# Altium schematic symbol library 电子元件.SchLib: 121 symbols (part 1 of 2)
Pins are listed as number, name and electrical type; pins without a type are passive.

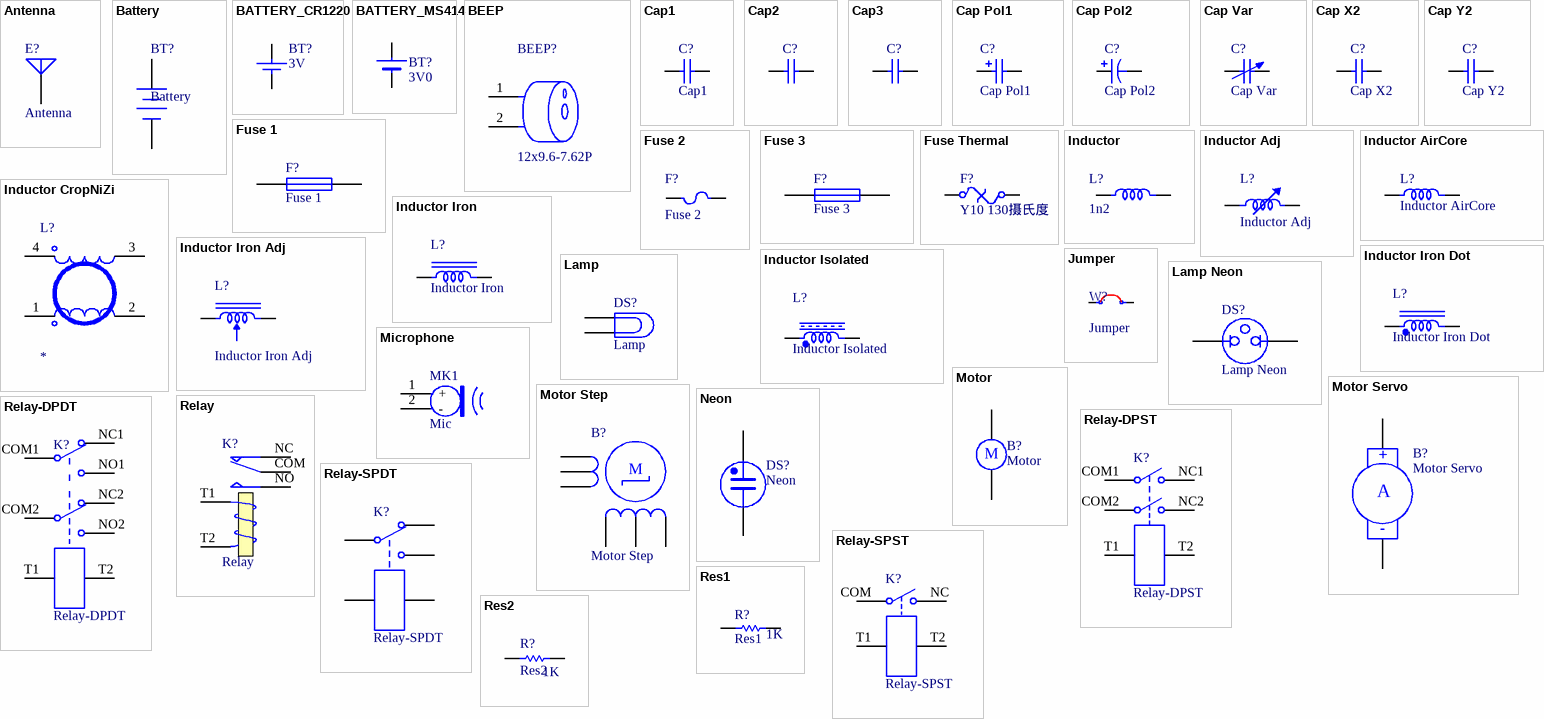
[diagram p0: symbols Antenna to Res2]

## Antenna
designator E?
天线; Published: 24-Mar-1999; LatestRevisionDate: 17-Jul-2002; LatestRevisionNote: Re-released for DXP Platform.; PackageReference: PIN1; Publisher: Altium Limited
footprint 2450AT18A100 (Footprint not found)
footprint ANT-xxx-HETH (315 418 433MHz 50 Ω -40 to +85°C)
footprint ANT-xxx-HESM (315 418 433MHz 50 Ω -40 to +85°C)
footprint ANT-433-PW-LP (Footprint not found)
pins: 1 A

## Battery
designator BT?
外接电池; Published: 24-Mar-1999; LatestRevisionDate: 17-Jul-2002; LatestRevisionNote: Re-released for DXP Platform.; PackageReference: BAT-2; Publisher: Altium Limited
footprint XH2.5-2P (JST XH白色座)
pins: 1 +, 2 -

## BATTERY_CR1220
designator BT?, comment 3V
CR1220 3V3锂电池
footprint CR1220 (3V电池)
pins: 1 +, 2 -

## BATTERY_MS414
designator BT?, comment 3V0
SEIKO 4.8mm直径 414系列1.5 2.0 3.0V锂电池
footprint BK-414-TR (XH414电池铁夹)
footprint XH414-II06E (Footprint not found)
pins: 1 +, 2 -

## BEEP
designator BEEP?, comment 12x9.6-7.62P
圆形蜂鸣器
footprint BEEP-762P12X9.5 (Footprint not found)
pins: 1 +, 2 -

## Cap1
designator C?
贴片瓷介电容; Published: 8-Jun-2000; LatestRevisionDate: 17-Jul-2002; LatestRevisionNote: Re-released for DXP Platform.; PackageReference: RAD-0.3; Publisher: Altium Limited
simulation model CAP (Capacitor)
signal-integrity model Cap
footprint C0201 (英制0201封装 电容)
footprint C0402 (英制0402封装 电容)
footprint C0603 (英制0603封装 电容)
footprint C0805 (英制0805封装 电容)
footprint C1206 (英制1206封装 电容)
footprint C1210 (英制1210封装 电容)
footprint C1812 (英制1812封装 电容)
footprint C1808 (VISHAY VJ贴片电容)
footprint C1825 (VISHAY VJ贴片电容)
footprint C2220 (VISHAY VJ贴片电容)
footprint C2225 (VISHAY VJ贴片电容)
footprint C3640 (VISHAY VJ贴片电容)
footprint C0201-Y (黄色贴片电容)
footprint C0402-Y (黄色贴片电容)
footprint C0603-Y (黄色贴片电容)
footprint C0805-Y (黄色贴片电容)
footprint C1206-Y (黄色贴片电容)
footprint C1210-Y (黄色贴片电容)
pins: 1, 2

## Cap2
designator C?
针式瓷片电容; Published: 23-Sep-2002; PackageReference: CAPR5-4X5; Publisher: Altium Limited
footprint RAD5D-0.1 (针式瓷片电容)
simulation model CAP (Capacitor)
signal-integrity model Cap
footprint RAD5D-0.2 (针式瓷片电容)
footprint RAD6D35-0.2 (针式瓷片电容)
pins: 1, 2

## Cap3
designator C?
金属化薄膜电容; Published: 23-Sep-2002; PackageReference: CAPR5-4X5; Publisher: Altium Limited
footprint msr-7p5-10w5-9h-6t-R (Footprint not found)
simulation model CAP (Capacitor)
signal-integrity model Cap
footprint msr500p-6w6-6h2-3t5-R (Footprint not found)
footprint msr500p-7w3-7h-t4-R (Footprint not found)
footprint mcapv-12w8h4t5-10p (Footprint not found)
footprint mcapv-12w9h5t-10p (Footprint not found)
footprint mcapv-12w10h6t-10p (Footprint not found)
footprint mcapv-12w11h7t5-10p (Footprint not found)
footprint mcapv-12w11h7t-10p (Footprint not found)
footprint mcapv-17w11h6t5-15p (Footprint not found)
footprint mcapv-17w12h7t-15p (Footprint not found)
footprint mcapv-17w14h9t-15p (Footprint not found)
footprint mcapv-18w10h6t5-15p (Footprint not found)
footprint mcapv-18w11h7t-15p (Footprint not found)
footprint mcapv-18w12h8t-15p (Footprint not found)
footprint mcapv-18w15h9t-15p (Footprint not found)
footprint mcapv-18w16h10t-15p (Footprint not found)
footprint mcapv-22w15h8t5-20p (Footprint not found)
footprint mcapv-22w16h5-10t-20p (Footprint not found)
footprint mcapv-22w19h9t-20p (Footprint not found)
footprint mcapv-22w19h12t-20p (Footprint not found)
footprint mcapv-23w14h5-8t5-20p (Footprint not found)
footprint mcapv-23w16h9t5-20p (Footprint not found)
footprint mcapv-23w17h11t-20p (Footprint not found)
footprint mcapv-23w18h11t5-20p (Footprint not found)
footprint mcapv-25w15h9t-22p5 (Footprint not found)
footprint mcapv-25w16h5-10t-22p5 (Footprint not found)
footprint mcapv-25w17h5-11t-22p5 (Footprint not found)
footprint mcapv-25w18h5-12t-22p5 (Footprint not found)
footprint mcapv-25w21h5-12t5-22p5 (Footprint not found)
footprint mcapv-25w21h11t5-22p5 (Footprint not found)
footprint mcapv-29w19h10t5-27p5 (Footprint not found)
footprint mcapv-29w20h13t-27p5 (Footprint not found)
footprint mcapv-29w21h12t5-27p5 (Footprint not found)
footprint mcapv-29w23h17t5-27p5 (Footprint not found)
footprint mcapv-30w21h12t-27p5 (Footprint not found)
footprint mcapv-30w22h5-13t-27p5 (Footprint not found)
footprint mcapv-30w23h5-14t-27p5 (Footprint not found)
pins: 1, 2

## Cap Pol1
designator C?
钽电容; Published: 8-Jun-2000; LatestRevisionDate: 17-Jul-2002; LatestRevisionNote: Re-released for DXP Platform.; PackageReference: RB7.6-15; Publisher: Altium Limited
simulation model CAP (Capacitor)
signal-integrity model Cap Pol
footprint T3216-18[A] (A 型钽电容封装)
footprint T3528-21[B] (B 型钽电容封装)
footprint T6032-28[C] (C型钽电容)
footprint T7343-31[D] (D型钽电容)
footprint T7343-43[E] (E型钽电容)
footprint T7361-38[V] (V型钽电容)
pins: 1, 2
1 alternate drawing of the same symbol

## Cap Pol2
designator C?
电解电容; Published: 8-Jun-2000; LatestRevisionDate: 17-Jul-2002; LatestRevisionNote: Re-released for DXP Platform.; PackageReference: POLAR0.8; Publisher: Altium Limited
simulation model CAP (Capacitor)
signal-integrity model Cap Pol
footprint CD4x7 (1uF/50V,10uF/25V)
footprint CD5X11 (CD11铝电解电容)
footprint CD6.3X11 (CD11铝电解电容)
footprint CD8X11.5 (CD11铝电解电容)
footprint CD8X16 (CD11铝电解电容)
footprint CD10X15 (CD11铝电解电容)
footprint CD13X21 (CD11铝电解电容)
footprint CE-4.3x4.3AX (三洋固态电容)
footprint CE-5.3X5.3AX (三洋固态电容)
footprint CE-6.6X6.6AX (三洋固态电容)
footprint CE-8.3X8.3AX (三洋固态电容)
footprint CE-10.3X10.3AX (三洋固态电容)
footprint CE-12.8X12.8AX (三洋固态电容)
footprint CE-16.3X16.3AX (三洋固态电容)
pins: 1, 2
1 alternate drawing of the same symbol

## Cap Var
designator C?
可调电容; Published: 24-Mar-1999; LatestRevisionDate: 17-Jul-2002; LatestRevisionNote: Re-released for DXP Platform.; PackageReference: C1210; Publisher: Altium Limited
signal-integrity model Cap Var
footprint CAP-ADJ-JML03-3P (Footprint not found)
footprint CAP-ADJ-JML03-6P (贴片可调电容)
footprint CAP-ADJ-JML03-20P (贴片可调电容)
footprint CAP-ADJ-JML03-30P (Footprint not found)
pins: 1, 2

## Cap X2
designator C?
X2安规电容; Published: 23-Sep-2002; PackageReference: CAPR5-4X5; Publisher: Altium Limited
simulation model CAP (Capacitor)
signal-integrity model Cap
footprint x2v-10w5h10t4-7p5
footprint x2v-10w5h11t5-7p5 (Footprint not found)
footprint x2v-10w5h12t6-7p5 (Footprint not found)
footprint x2v-12w4t9h-10p (Footprint not found)
footprint x2v-13w11h5t-p10 (Footprint not found)
footprint x2v-13w12h6t-p10 (Footprint not found)
footprint x2v-18w11h5t-p15 (Footprint not found)
footprint x2v-18w12h6t-p15 (Footprint not found)
footprint x2v-18w13h5-7t5-p15 (Footprint not found)
footprint x2v-18w14h5-8t4-p15 (Footprint not found)
footprint x2v-18w15h5-9t5-p15 (Footprint not found)
footprint x2v-18w19h-10t8-p15 (Footprint not found)
footprint x2v-26w5-15h-6t-22p5 (Footprint not found)
footprint x2v-26w5-16h5-7t-22p5 (Footprint not found)
footprint x2v-26w5-17h-8t5-22p5 (Footprint not found)
footprint x2v-26w5-19h-10t-22p5 (Footprint not found)
footprint x2v-26w5-20h-11t-22p (Footprint not found)
footprint x2v-26w5-21h5-12t-22p5 (Footprint not found)
footprint x2v-31w5-19h5-10t8-27p5 (Footprint not found)
footprint x2v-31w5-21h5-13t-27p5 (Footprint not found)
footprint x2v-32w-25h5-16t-27p5 (Footprint not found)
footprint x2v-32w-26h-18t-27p5 (Footprint not found)
pins: 1, 2

## Cap Y2
designator C?
Y2安规电容; Published: 23-Sep-2002; PackageReference: CAPR5-4X5; Publisher: Altium Limited
simulation model CAP (Capacitor)
signal-integrity model Cap
footprint Y2CAP7.5F-3.75T (Y2 7.5mm脚距，4mm厚)
footprint Y2CAP10F-3.75T (Y2 10mm脚距，4mm厚)
pins: 1, 2

## Fuse 1
designator F?
针式熔断器; Published: 8-Jun-2000; LatestRevisionDate: 17-Jul-2002; LatestRevisionNote: Re-released for DXP Platform.; PackageReference: PIN-W2/E2.8; Publisher: Altium Limited
simulation model FUSE (Spice Subcircuit)
footprint FUSE-3.6X10 (引线式电流保险丝)
footprint FUSE-199018 (5X20保险丝座)
footprint FUSE-3.6X10H (引线式电流保险丝)
footprint FUSE-199487 (5X20保险丝)
pins: 1, 2

## Fuse 2
designator F?
贴片熔断器; Published: 8-Jun-2000; LatestRevisionDate: 17-Jul-2002; LatestRevisionNote: Re-released for DXP Platform.; PackageReference: PIN-W2/E2.8; Publisher: Altium Limited
footprint FUSE-2.6X6.1-SMD (Footprint not found)
simulation model FUSE (Spice Subcircuit)
footprint FUSE-4.5X8-SMD (Footprint not found)
footprint FUSE-4.5X12.1-SMD (Littelfuse 0.5 ~6.3A SMD FUSE)
footprint FUSE-5X20-SMD (Footprint not found)
pins: 1, 2

## Fuse 3
designator F?
自恢复断路器; Published: 8-Jun-2000; LatestRevisionDate: 17-Jul-2002; LatestRevisionNote: Re-released for DXP Platform.; PackageReference: PIN-W2/E2.8; Publisher: Altium Limited
simulation model FUSE (Spice Subcircuit)
footprint PTC1812 (Footprint not found)
pins: 1, 2

## Fuse Thermal
designator F?, comment Y10 130摄氏度
温度保险丝; Published: 24-Mar-1999; LatestRevisionDate: 17-Jul-2002; LatestRevisionNote: Re-released for DXP Platform.; PackageReference: PIN-W2/E2.8; Publisher: Altium Limited
footprint FUSE-Y10 (Footprint not found)
pins: 1, 2

## Inductor
designator L?, comment 1n2
高频贴片电感
footprint LL0201 (Footprint not found)
footprint LL0402 (Footprint not found)
footprint LL0603 (Footprint not found)
pins: 1, 2

## Inductor Adj
designator L?
微调电感; Set Position: 0.5; Published: 24-Mar-1999; LatestRevisionDate: 17-Jul-2002; LatestRevisionNote: Re-released for DXP Platform.; PackageReference: AXIAL-0.8; Publisher: Altium Limited
simulation model INDUCTOR (Inductor)
signal-integrity model Inductor Adj
pins: 1, 2

## Inductor AirCore
designator L?
高频空芯电感; Code_IEC: 1005; Published: 8-Jun-2000; LatestRevisionDate: 17-Jul-2002; LatestRevisionNote: Re-released for DXP Platform.; PackageReference: 0402-A; Publisher: Altium Limited; Code_JEITA: 0402
simulation model INDUCTOR (Inductor)
signal-integrity model Inductor
footprint IND4D-1T5 (空芯线圈)
footprint IND4D-2T5 (空芯线圈)
footprint IND4D-3T5 (空芯线圈)
footprint IND4D-4T5 (空芯线圈)
footprint IND4D-5T5 (空芯线圈)
footprint IND4D-6T5 (Footprint not found)
footprint IND4D-7T5 (Footprint not found)
footprint IND4D-8T5 (Footprint not found)
footprint IND4D-9T5 (Footprint not found)
footprint IND4D-10T5 (Footprint not found)
footprint IND4D-32T5 (Footprint not found)
footprint IND5D-1T5 (Footprint not found)
footprint IND5D-2T5 (Footprint not found)
footprint IND5D-3T5 (Footprint not found)
footprint IND5D-4T5 (Footprint not found)
footprint IND5D-5T5 (Footprint not found)
footprint IND5D-6T5 (Footprint not found)
footprint IND5D-7T5 (Footprint not found)
footprint IND5D-8T5 (Footprint not found)
footprint IND5D-9T5 (Footprint not found)
footprint IND5D-10T5 (Footprint not found)
footprint IND5D-32T5 (Footprint not found)
footprint IND6D-1T5 (Footprint not found)
footprint IND6D-2T5 (Footprint not found)
footprint IND6D-3T5 (Footprint not found)
footprint IND6D-4T5 (Footprint not found)
footprint IND6D-5T5 (Footprint not found)
footprint IND6D-6T5 (Footprint not found)
footprint IND6D-7T5 (Footprint not found)
footprint IND6D-8T5 (Footprint not found)
footprint IND6D-9T5 (Footprint not found)
footprint IND6D-10T5 (Footprint not found)
footprint IND7D-1T5 (Footprint not found)
footprint IND7D-2T5 (Footprint not found)
footprint IND7D-3T5 (Footprint not found)
footprint IND7D-4T5 (Footprint not found)
footprint IND7D-5T5 (Footprint not found)
footprint IND7D-8T5 (Footprint not found)
footprint IND7D-9T5 (Footprint not found)
footprint IND7D-10T5 (Footprint not found)
footprint IND8D-1T5 (Footprint not found)
footprint IND8D-2T5 (Footprint not found)
footprint IND8D-3T5 (Footprint not found)
footprint IND8D-4T5 (Footprint not found)
footprint IND8D-5T5 (Footprint not found)
footprint IND8D-6T5 (Footprint not found)
footprint IND8D-7T5 (Footprint not found)
footprint IND8D-9T5 (Footprint not found)
footprint IND8D-10T5 (Footprint not found)
footprint IND9D-1T5 (Footprint not found)
footprint IND9D-2T5 (Footprint not found)
footprint IND9D-3T5 (Footprint not found)
footprint IND9D-4T5 (Footprint not found)
footprint IND9D-5T5 (Footprint not found)
footprint IND9D-6T5 (Footprint not found)
footprint IND9D-7T5 (Footprint not found)
footprint IND9D-8T5 (Footprint not found)
footprint IND9D-9T5 (Footprint not found)
footprint IND9D-10T5 (Footprint not found)
footprint IND4D-1T5S (Footprint not found)
footprint IND4D-2T5S (贴片空芯线圈)
footprint IND4D-3T5S (Footprint not found)
footprint IND4D-4T5S (Footprint not found)
footprint IND4D-5T5S (Footprint not found)
footprint IND4D-6T5S (Footprint not found)
footprint IND4D-7T5S (Footprint not found)
footprint IND4D-8T5S (贴片空芯线圈)
footprint IND4D-9T5S (Footprint not found)
footprint IND4D-10T5S (Footprint not found)
footprint IND4D-11T5S (Footprint not found)
footprint IND3D-1T5S (Footprint not found)
footprint IND3D-4T5S (Footprint not found)
footprint IND3D-2T5S (Footprint not found)
footprint IND3D-3T5S (Footprint not found)
footprint IND3D-5T5S (Footprint not found)
footprint IND3D-6T5S (Footprint not found)
footprint IND3D-7T5S (Footprint not found)
footprint IND3D-8T5S (Footprint not found)
footprint IND3D-9T5S (Footprint not found)
footprint IND3D-10T5S (Footprint not found)
footprint IND3D-11T5S (Footprint not found)
footprint IND2D5-1T5S (Footprint not found)
footprint IND2D5-2T5S (Footprint not found)
footprint IND2D5-3T5S (Footprint not found)
footprint IND2D5-4T5S (Footprint not found)
footprint IND2D5-5T5S (Footprint not found)
footprint IND2D5-6T5S (Footprint not found)
footprint IND2D5-7T5S (Footprint not found)
footprint IND2D5-8T5S (Footprint not found)
footprint IND2D5-9T5S (Footprint not found)
footprint IND2D5-10T5S (Footprint not found)
footprint IND2D5-11T5S (Footprint not found)
footprint IND2D-1T5S (Footprint not found)
footprint IND2D-2T5S (Footprint not found)
footprint IND2D-3T5S (Footprint not found)
footprint IND2D-4T5S (Footprint not found)
footprint IND2D-5T5S (Footprint not found)
footprint IND2D-6T5S (Footprint not found)
footprint IND2D-7T5S (Footprint not found)
footprint IND2D-8T5S (Footprint not found)
footprint IND2D-9T5S (Footprint not found)
footprint IND2D-10T5S (Footprint not found)
footprint IND2D-11T5S (Footprint not found)
pins: 1, 2

## Inductor CropNiZi
designator L?
磁环滤波电感
footprint EMI-R500 (Footprint not found)
pins: 1, 2, 3, 4

## Inductor Iron
designator L?
EMI 磁珠电感; Published: 24-Mar-1999; LatestRevisionDate: 17-Jul-2002; LatestRevisionNote: Re-released for DXP Platform.; PackageReference: AXIAL-0.9; Publisher: Altium Limited
simulation model INDUCTOR (Inductor)
signal-integrity model Inductor Iron
footprint MLF1005 (0402 普通贴片电感)
footprint MLF1608 (0603 普通贴片电感)
footprint MLF2012 (0805 普通贴片电感)
footprint RH2D5X4L5 (Footprint not found)
footprint RH2DX4L (Footprint not found)
footprint RH3D5X3L (Footprint not found)
footprint RH3D5X4L5 (Footprint not found)
footprint RH3D5X5L (Footprint not found)
footprint RH3D5X6L (Footprint not found)
footprint RH3D5X7L (Footprint not found)
footprint RH3D5X8L (Footprint not found)
footprint RH3D5X9L (Footprint not found)
footprint RH3D5X10L (Footprint not found)
footprint RH3D5X11L (Footprint not found)
footprint RH3D5X12L (Footprint not found)
footprint ILSB1206 (Footprint not found)
footprint ILBB1210 (Footprint not found)
footprint ILBB1806 (Footprint not found)
footprint ILBB1812 (Footprint not found)
pins: 1, 2

## Inductor Iron Adj
designator L?
铁磁芯可调电感; Set Position: 0.5; Published: 24-Mar-1999; LatestRevisionDate: 17-Jul-2002; LatestRevisionNote: Re-released for DXP Platform.; PackageReference: AXIAL-1.0; Publisher: Altium Limited
footprint 7KBSN (镙纹可调电感)
simulation model INDUCTOR (Inductor)
signal-integrity model Inductor Iron Adj
pins: 1, 2

## Inductor Iron Dot
designator L?
工字磁芯电感; Published: 24-Mar-1999; LatestRevisionDate: 17-Jul-2002; LatestRevisionNote: Re-released for DXP Platform.; PackageReference: DIODE_SMC; Publisher: Altium Limited
signal-integrity model Inductor Iron Dot
footprint SF1608 (Footprint not found)
footprint drc3d2-2d8-1l5 (贴片工字电感)
footprint drc3d5-3d0-1l1 (Footprint not found)
footprint drc3d5-3d0-2l1 (Footprint not found)
footprint drc10d0-9d0-8L2 (贴片工字电感)
footprint drc10d0-9d0-5L4 (贴片工字电感)
footprint drc10d0-9d0-4l0 (贴片工字电感)
footprint drc7d8-7d0-5L0 (贴片工字电感)
footprint drc7d8-7d0-3l5 (贴片工字电感)
footprint drc5d8-5d2-4L5 (贴片工字电感)
footprint drc5d8-5d2-3L0 (贴片工字电感)
footprint drc5d8-5d2-2l5 (贴片工字电感)
footprint drc5d8-5d2-2l (贴片工字电感)
footprint drc5d0-4d5-3L0 (贴片工字电感)
footprint drc4d5-4d0-3L2 (贴片工字电感)
footprint drc4d5-4d0-2l1 (贴片工字电感)
footprint DRR4D-6L-2P (Footprint not found)
footprint DRR5D-6L-2P5 (Footprint not found)
footprint DRR6D-8L-3P (Footprint not found)
footprint DRR6D-8L-4P (Footprint not found)
footprint DRR7D-10L-2P5 (Footprint not found)
footprint DRR7D-10L-3P (Footprint not found)
footprint DRR8D-10L-5P (针式工字电感)
footprint DRR9D-12L-5P (针式工字电感)
footprint DRR9D-12L-6P (针式工字电感)
footprint DRR10D-12L-5P (针式工字电感)
footprint DRR10D-12L-6P (针式工字电感)
pins: 1, 2

## Inductor Isolated
designator L?
蔽磁电感; PackageDocument: 1988; Published: 24-Mar-1999; LatestRevisionDate: 17-Jul-2002; LatestRevisionNote: Re-released for DXP Platform.; PackageReference: 425; Publisher: Altium Limited
signal-integrity model Inductor Isolated
footprint LGBF0606 (蔽磁功率电感)
footprint LGBF0807 (蔽磁功率电感)
footprint LGBF1012 (Footprint not found)
footprint RH124 (贴片蔽磁电感)
footprint RH125 (贴片蔽磁电感)
footprint RH127 (贴片蔽磁电感)
footprint SD4D18 (贴片蔽磁电感)
footprint SD4D28 (贴片蔽磁电感)
footprint SD5D18 (贴片蔽磁电感)
footprint SD5D28 (贴片蔽磁电感)
footprint SD6D28 (贴片蔽磁电感)
footprint SD6D38 (贴片蔽磁电感)
footprint SD8D28 (贴片蔽磁电感)
footprint SD8D43 (贴片蔽磁电感)
footprint SLF-6025 (TDK 蔽磁贴片功率电感)
footprint SLF-6028 (TDK 蔽磁贴片功率电感)
footprint SLF-6045 (TDK 蔽磁贴片功率电感)
footprint SLF-7032 (TDK 蔽磁贴片功率电感)
footprint SLF-7045 (TDK 蔽磁贴片功率电感)
footprint SLF-7055 (TDK 蔽磁贴片功率电感)
footprint SLF-10145 (TDK 蔽磁贴片功率电感)
footprint SLF-10165 (TDK 蔽磁贴片功率电感)
footprint SLF-12555 (TDK 蔽磁贴片功率电感)
footprint SLF-12565 (TDK 蔽磁贴片功率电感)
footprint SLF-12575 (TDK 蔽磁贴片功率电感)
footprint VLF252010 (Footprint not found)
footprint VLF252012 (Footprint not found)
footprint VLF252015 (Footprint not found)
footprint VLF302510 (Footprint not found)
footprint VLF302512 (Footprint not found)
footprint VLF302515 (Footprint not found)
footprint VLF403210 (Footprint not found)
footprint VLF403212 (Footprint not found)
footprint VLF403215 (Footprint not found)
footprint VLF504010 (Footprint not found)
footprint VLF504012 (Footprint not found)
footprint VLF504015 (Footprint not found)
pins: 1, 2

## Jumper
designator W?
跳线; Published: 24-Mar-1999; LatestRevisionDate: 17-Jul-2002; LatestRevisionNote: Re-released for DXP Platform.; PackageReference: RAD-0.2; Publisher: Altium Limited
footprint JUMP0D6-3 (跳线)
footprint JUMP0D6-4 (跳线)
footprint JUMP0D6-5 (跳线)
footprint JUMP0D6-6 (跳线)
footprint JUMP0D6-7 (跳线)
footprint JUMP0D6-8 (跳线)
footprint JUMP0D6-9 (跳线)
footprint JUMP0D6-10 (跳线)
footprint JUMP0D6-11 (跳线)
footprint JUMP0D6-12 (跳线)
footprint JUMP0D6-15 (跳线)
footprint JUMP0D6-20 (跳线)
footprint JUMP0D6-25 (跳线)
footprint JUMP0D6-13 (跳线)
footprint JUMP0D6-14 (跳线)
footprint JUMP0D6-16 (跳线)
footprint JUMP0D6-17 (跳线)
footprint JUMP0D6-18 (跳线)
footprint JUMP0D6-19 (跳线)
footprint JUMP0D6-21 (跳线)
footprint JUMP0D6-22 (跳线)
footprint JUMP0D6-23 (跳线)
footprint JUMP0D6-24 (跳线)
pins: 1, 2

## Lamp
designator DS?
灯炮; Published: 24-Mar-1999; LatestRevisionDate: 17-Jul-2002; LatestRevisionNote: Re-released for DXP Platform.; PackageReference: PIN2; Publisher: Altium Limited
footprint XH2.5-2P (JST XH白色座)
pins: 1, 2

## Lamp Neon
designator DS?
氖炮; Published: 24-Mar-1999; LatestRevisionDate: 17-Jul-2002; LatestRevisionNote: Re-released for DXP Platform.; PackageReference: PIN2; Publisher: Altium Limited
footprint XH2.5-2P (JST XH白色座)
pins: 1, 2

## Microphone
designator MK1, comment Mic
电容式受话器; Published: 24-Mar-1999; LatestRevisionDate: 17-Jul-2002; LatestRevisionNote: Re-released for DXP Platform.; PackageReference: PIN2; Publisher: Altium Limited
footprint MIC_RF-MP6027P-2C (6.0*2.7mm全指向双电容咪头)
pins: 1 +, 2 -

## Motor
designator B?
通用电机; Published: 24-Mar-1999; LatestRevisionDate: 17-Jul-2002; LatestRevisionNote: Re-released for DXP Platform.; PackageReference: RB5-10.5; Publisher: Altium Limited
footprint XH2.5-2P (JST XH白色座)
pins: 1, 2
text: M

## Motor Servo
designator B?
直流电机; Published: 24-Mar-1999; LatestRevisionDate: 17-Jul-2002; LatestRevisionNote: Re-released for DXP Platform.; PackageReference: RAD-0.4; Publisher: Altium Limited
footprint XH2.5-2P (JST XH白色座)
pins: 1 +, 2 -
text: A

## Motor Step
designator B?
步进电机; Published: 24-Mar-1999; LatestRevisionDate: 17-Jul-2002; LatestRevisionNote: Re-released for DXP Platform.; PackageReference: DIP-6; Publisher: Altium Limited; Code_JEDEC: MO-001-AM
footprint XH2.5-5P (JST XH白色座)
pins: 1, 2, 3, 4, 5, 6
text: M

## Neon
designator DS?
氖管; Published: 24-Mar-1999; LatestRevisionDate: 17-Jul-2002; LatestRevisionNote: Re-released for DXP Platform.; PackageReference: PIN2; Publisher: Altium Limited
footprint XH2.5-2P (JST XH白色座)
pins: 1, 2

## Relay
designator K?
单刀双掷继电器; Published: 8-Jun-2000; LatestRevisionDate: 17-Jul-2002; LatestRevisionNote: Re-released for DXP Platform.; PackageReference: MODULE5B; Publisher: Altium Limited
simulation model SPDTRELAY (Spice Subcircuit)
footprint SRD-S-1C (Footprint not found)
footprint SLA (SLA继电器)
pins: COM, NC, NO, T1, T2

## Relay-DPDT
designator K?
双刀双掷继电器; Published: 24-Mar-1999; LatestRevisionDate: 17-Jul-2002; LatestRevisionNote: Re-released for DXP Platform.; PackageReference: DIP-P8; Publisher: Altium Limited
simulation model DPDTRELAY (Spice Subcircuit)
footprint DSY2Y (继电器)
pins: COM1 COM, COM2 COM, NC1 NC, NC2 NC, NO1 NO, NO2 NO, T1, T2

## Relay-DPST
designator K?
双刀继电器; Published: 24-Mar-1999; LatestRevisionDate: 17-Jul-2002; LatestRevisionNote: Re-released for DXP Platform.; PackageReference: MODULE6; Publisher: Altium Limited
simulation model DPSTRELAY (Spice Subcircuit)
footprint SMC (Footprint not found)
pins: COM1 COM, COM2 COM, NC1 NC, NC2 NC, T1, T2

## Relay-SPDT
designator K?
单刀双掷继电器; Published: 24-Mar-1999; LatestRevisionDate: 17-Jul-2002; LatestRevisionNote: Re-released for DXP Platform.; PackageReference: MODULE5B; Publisher: Altium Limited
simulation model SPDTRELAY (Spice Subcircuit)
footprint SLA (Footprint not found)
footprint SRD-S-1C (Footprint not found)
pins: 1, 2, 3, 4, 5

## Relay-SPST
designator K?
单刀继电器; Published: 24-Mar-1999; LatestRevisionDate: 17-Jul-2002; LatestRevisionNote: Re-released for DXP Platform.; PackageReference: MODULE4; Publisher: Altium Limited
simulation model SPSTRELAY (Spice Subcircuit)
footprint SJ-10A (Footprint not found)
pins: COM, NC, T1, T2

## Res1
designator R?  value 1K
贴片厚膜电阻; Published: 8-Jun-2000; LatestRevisionDate: 17-Jul-2002; LatestRevisionNote: Re-released for DXP Platform.; PackageReference: AXIAL-0.3; Publisher: Altium Limited
footprint R0201 (英制0201封装电阻)
simulation model RESISTOR (Resistor)
signal-integrity model Res
footprint R0402 (英制0402封装电阻)
footprint R0603 (Footprint not found)
footprint R0805 (Footprint not found)
footprint R1206 (Footprint not found)
footprint R1210 (Footprint not found)
footprint R1218 (Footprint not found)
footprint R2010 (Footprint not found)
footprint R2512 (Footprint not found)
footprint R1812 (Footprint not found)
pins: 1, 2

## Res2
designator R?  value 1K
小功率针式电阻; Published: 8-Jun-2000; LatestRevisionDate: 17-Jul-2002; LatestRevisionNote: Re-released for DXP Platform.; PackageReference: AXIAL-0.4; Publisher: Altium Limited
footprint AXIAL-0.4 (Resistor; 2 Leads)
simulation model RESISTOR (Resistor)
signal-integrity model Res
footprint AXIAL-0.3 (Footprint not found)
footprint AXIAL-0.5 (Footprint not found)
footprint AXIAL-0.6 (Footprint not found)
footprint AXIAL-0.7 (Footprint not found)
footprint AXIAL-0.8 (Footprint not found)
footprint MF-12 (Footprint not found)
footprint MF-25 (Footprint not found)
footprint MF-50 (Footprint not found)
footprint MF-100 (Footprint not found)
footprint MF-200 (Footprint not found)
footprint MF-300 (Footprint not found)
pins: 1, 2

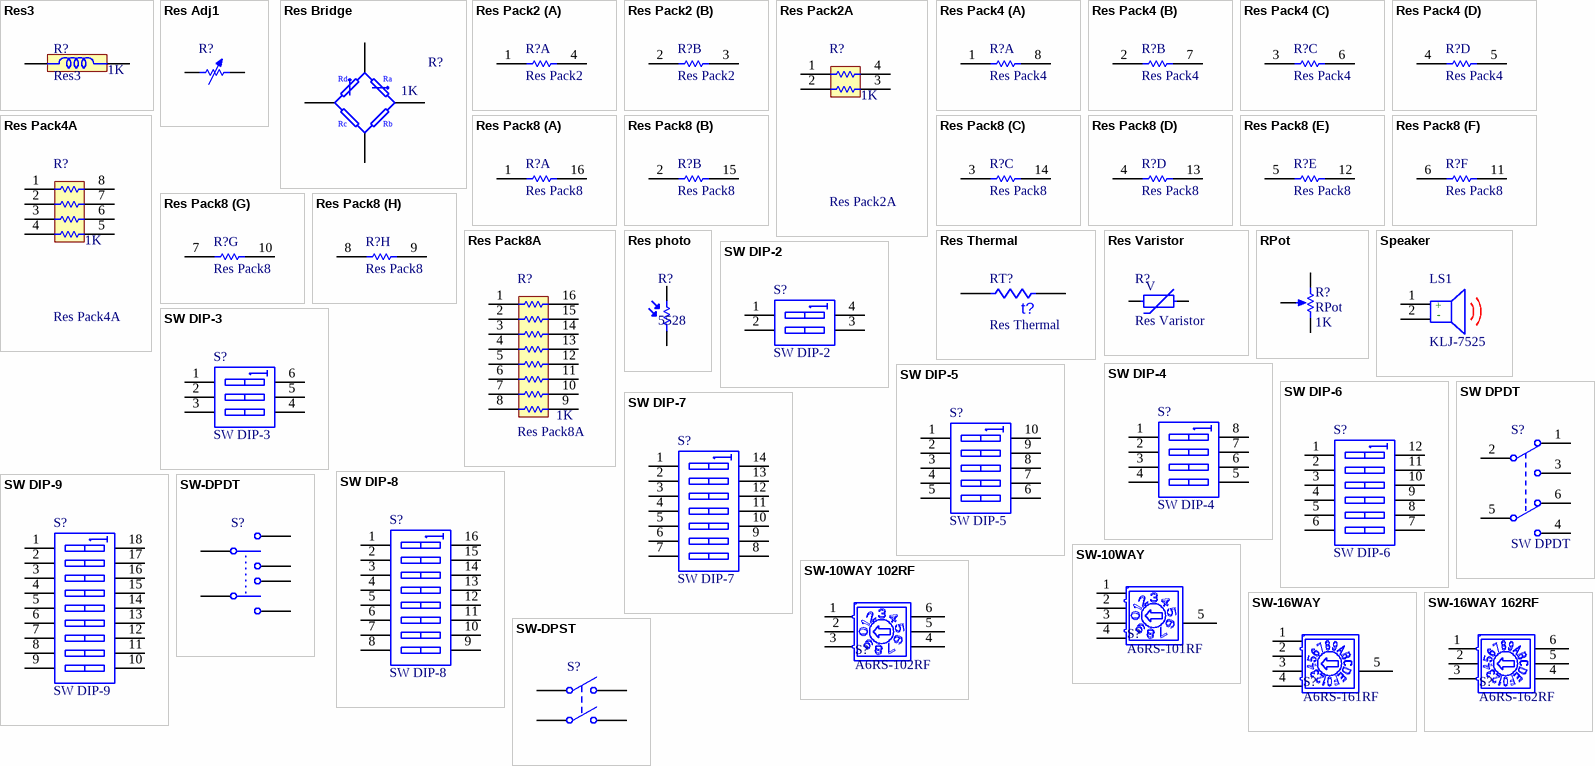
[diagram p1: symbols Res3 to SW-DPST]

## Res3
designator R?  value 1K
水泥电阻(有感）; Published: 8-Jun-2000; LatestRevisionDate: 04-Mar-2005; LatestRevisionNote: PCB Footprint replaced.; PackageReference: J1-0603; Publisher: Altium Limited
footprint SQP-1 (Footprint not found)
simulation model RESISTOR (Resistor)
signal-integrity model Res
footprint SQP-2 (Footprint not found)
footprint SQP-3 (Footprint not found)
footprint SQP-5 (Footprint not found)
footprint SQP-7 (Footprint not found)
footprint SQP-10 (Footprint not found)
footprint SQP-15 (Footprint not found)
footprint SQP-20 (Footprint not found)
pins: 1, 2

## Res Adj1
designator R?
Variable Resistor; Set Position: 0.5; Published: 8-Jun-2000; LatestRevisionDate: 17-Jul-2002; LatestRevisionNote: Re-released for DXP Platform.; PackageReference: AXIAL-0.7; Publisher: Altium Limited
simulation model VRES (Variable Resistor)
signal-integrity model Res Adj
footprint JML3362P (Footprint not found)
footprint JML3296Y (Footprint not found)
pins: CCW, CW

## Res Bridge
designator R?  value 1K
Resistor Bridge; Published: 24-Mar-1999; LatestRevisionDate: 17-Jul-2002; LatestRevisionNote: Re-released for DXP Platform.; PackageReference: P04A; Publisher: Altium Limited
footprint XH2.5-4P (JST XH白色座)
signal-integrity model Res Bridge
pins: 1, 2, 3, 4
text: Rd; Ra; Rc; Rb

## Res Pack2
designator R?
2位贴片排阻; Sim Note: Enter the Resistance value into parameter field.; Published: 24-Mar-1999; LatestRevisionDate: 17-Jul-2002; LatestRevisionNote: Re-released for DXP Platform.; PackageReference: SOIC16; Publisher: Altium Limited; Code_JEDEC: MS-012-AC; Code_IPC: SO16
simulation model RESISTOR (Resistor)
signal-integrity model Res Pack
footprint CRB1A2E (Footprint not found)
part A pins: 1, 4
part B pins: 2, 3

## Res Pack2A
designator R?  value 1K
2位贴片排阻; Published: 24-Mar-1999; LatestRevisionDate: 17-Jul-2002; LatestRevisionNote: Re-released for DXP Platform.; PackageReference: SO-16; Publisher: Altium Limited
footprint CRB1A2E (Footprint not found)
simulation model respack_8 (Spice Subcircuit)
pins: 1, 2, 3, 4

## Res Pack4
designator R?
4位贴片排阻; Sim Note: Enter the Resistance value into parameter field.; Published: 24-Mar-1999; LatestRevisionDate: 17-Jul-2002; LatestRevisionNote: Re-released for DXP Platform.; PackageReference: SOIC16; Publisher: Altium Limited; Code_JEDEC: MS-012-AC; Code_IPC: SO16
simulation model RESISTOR (Resistor)
signal-integrity model Res Pack
footprint CRA3A4E (Footprint not found)
footprint CRB3A4E (Footprint not found)
footprint CRB2A4E (Footprint not found)
part A pins: 1, 8
part B pins: 2, 7
part C pins: 3, 6
part D pins: 4, 5

## Res Pack4A
designator R?  value 1K
4位贴片排阻; Published: 24-Mar-1999; LatestRevisionDate: 17-Jul-2002; LatestRevisionNote: Re-released for DXP Platform.; PackageReference: SO-16; Publisher: Altium Limited
footprint CRA3A4E (Footprint not found)
simulation model respack_8 (Spice Subcircuit)
footprint CRB2A4E (Footprint not found)
footprint CRB3A4E (Footprint not found)
pins: 1, 2, 3, 4, 5, 6, 7, 8

## Res Pack8
designator R?
8位贴片排阻; Sim Note: Enter the Resistance value into parameter field.; Published: 24-Mar-1999; LatestRevisionDate: 17-Jul-2002; LatestRevisionNote: Re-released for DXP Platform.; PackageReference: SOIC16; Publisher: Altium Limited; Code_JEDEC: MS-012-AC; Code_IPC: SO16
simulation model RESISTOR (Resistor)
signal-integrity model Res Pack
footprint CRB6A8E (Footprint not found)
part A pins: 1, 16
part B pins: 2, 15
part C pins: 3, 14
part D pins: 4, 13
part E pins: 5, 12
part F pins: 6, 11
part G pins: 7, 10
part H pins: 8, 9

## Res Pack8A
designator R?  value 1K
8位贴片排阻; Published: 24-Mar-1999; LatestRevisionDate: 17-Jul-2002; LatestRevisionNote: Re-released for DXP Platform.; PackageReference: SO-16; Publisher: Altium Limited
footprint CRB6A8E (Footprint not found)
simulation model respack_8 (Spice Subcircuit)
pins: 1, 2, 3, 4, 5, 6, 7, 8, 9, 10, 11, 12, 13, 14, 15, 16

## Res photo
designator R?, comment 5528
光敏电阻; Published: 24-Mar-1999; LatestRevisionDate: 04-Mar-2005; LatestRevisionNote: PCB Footprint replaced.; PackageReference: 6-0805; Publisher: Altium Limited
footprint XH2.5-2P (Footprint not found)
pins: 1, 2

## Res Thermal
designator RT?
热敏电阻; Published: 24-Mar-1999; LatestRevisionDate: 04-Mar-2005; LatestRevisionNote: PCB Footprint replaced.; PackageReference: 6-0805; Publisher: Altium Limited
footprint RT0402 (Footprint not found)
footprint RT0603 (Footprint not found)
footprint RT0805 (Footprint not found)
pins: 1, 2
text: t?

## Res Varistor
designator R?
压敏电阻; Published: 24-Mar-1999; LatestRevisionDate: 04-Mar-2005; LatestRevisionNote: PCB Footprint replaced.; PackageReference: 6-0805; Publisher: Altium Limited
pins: 1, 2
text: V

## RPot
designator R?  value 1K
可调 电阻; Sim Note: Enter the Resistance value and the set point into parameter fields.; Set Position: 0.5; Published: 8-Jun-2000; LatestRevisionDate: 17-Jul-2002; LatestRevisionNote: Re-released for DXP Platform.; PackageReference: VR5; Publisher: Altium Limited
simulation model POT (Potentiometer)
footprint JML3362P (Footprint not found)
footprint JML3296Y (Footprint not found)
pins: CCW TOP, CW BOT, WPER TAP
1 alternate drawing of the same symbol

## Speaker
designator LS1, comment KLJ-7525
喇叭; Published: 24-Mar-1999; LatestRevisionDate: 17-Jul-2002; LatestRevisionNote: Re-released for DXP Platform.; PackageReference: PIN2; Publisher: Altium Limited
footprint Molex53398-0271 (Molex53398 连接器)
footprint XH2.5-2P (Footprint not found)
pins: 1 +, 2 -

## SW DIP-2
designator S?
2通道编码开关; Published: 24-Mar-1999; LatestRevisionDate: 17-Jul-2002; LatestRevisionNote: Re-released for DXP Platform.; PackageReference: DIP-4; Publisher: Altium Limited
footprint DIP-SW-2-BLUE (Footprint not found)
simulation model dpsw2 (Spice Subcircuit)
footprint DIP-SW-2-RED (Footprint not found)
pins: 1 A1, 2 A2, 3 B2, 4 B1

## SW DIP-3
designator S?
3通道编码开关; Published: 24-Mar-1999; LatestRevisionDate: 17-Jul-2002; LatestRevisionNote: Re-released for DXP Platform.; PackageReference: DIP-6; Publisher: Altium Limited; Code_JEDEC: MO-001-AM
footprint DIP-SW-3-BLUE (Footprint not found)
simulation model dpsw3 (Spice Subcircuit)
footprint DIP-SW-3-RED (Footprint not found)
pins: 1 A1, 2 A2, 3 A3, 4 B3, 5 B2, 6 B1

## SW DIP-4
designator S?
4通道编码开关; Published: 24-Mar-1999; LatestRevisionDate: 17-Jul-2002; LatestRevisionNote: Re-released for DXP Platform.; PackageReference: SO8; Publisher: Altium Limited; Code_JEDEC: MS-012-AA; Code_IPC: SO8
simulation model dpsw4 (Spice Subcircuit)
footprint DIP-SW-4-BLUE (Footprint not found)
footprint DIP-SW-4-RED (Footprint not found)
pins: 1 A1, 2 A2, 3 A3, 4 A4, 5 B4, 6 B3, 7 B2, 8 B1

## SW DIP-5
designator S?
5通道编码开关; Published: 24-Mar-1999; LatestRevisionDate: 17-Jul-2002; LatestRevisionNote: Re-released for DXP Platform.; PackageReference: N10A; Publisher: Altium Limited
footprint DIP-SW-5-BLUE (Footprint not found)
simulation model dpsw5 (Spice Subcircuit)
footprint DIP-SW-5-RED (Footprint not found)
pins: 1 A1, 2 A2, 3 A3, 4 A4, 5 A5, 6 B5, 7 B4, 8 B3, 9 B2, 10 B1

## SW DIP-6
designator S?
6通道编码开关; Published: 24-Mar-1999; LatestRevisionDate: 17-Jul-2002; LatestRevisionNote: Re-released for DXP Platform.; PackageReference: DIP-12/SW; Publisher: Altium Limited
footprint DIP-SW-6-BLUE (Footprint not found)
simulation model dpsw6 (Spice Subcircuit)
footprint DIP-SW-6-RED (Footprint not found)
pins: 1 A1, 2 A2, 3 A3, 4 A4, 5 A5, 6 A6, 7 B6, 8 B5, 9 B4, 10 B3, 11 B2, 12 B1

## SW DIP-7
designator S?
7通道编码开关; Published: 24-Mar-1999; LatestRevisionDate: 17-Jul-2002; LatestRevisionNote: Re-released for DXP Platform.; PackageReference: DIP-14; Publisher: Altium Limited; Code_JEDEC: MO-001-AF
footprint DIP-SW-7-BLUE (Footprint not found)
simulation model dpsw7 (Spice Subcircuit)
footprint DIP-SW-7-RED (Footprint not found)
pins: 1 A1, 2 A2, 3 A3, 4 A4, 5 A5, 6 A6, 7 A7, 8 B7, 9 B6, 10 B5, 11 B4, 12 B3, 13 B2, 14 B1

## SW DIP-8
designator S?
8通道编码开关; Published: 24-Mar-1999; LatestRevisionDate: 17-Jul-2002; LatestRevisionNote: Re-released for DXP Platform.; PackageReference: DIP_SW_8WAY_SMD; Publisher: Altium Limited
footprint DIP-SW-8-RED (Footprint not found)
simulation model dpsw8 (Spice Subcircuit)
footprint DIP-SW-8-BLUE (Footprint not found)
pins: 1 A1, 2 A2, 3 A3, 4 A4, 5 A5, 6 A6, 7 A7, 8 A8, 9 B8, 10 B7, 11 B6, 12 B5, 13 B4, 14 B3, 15 B2, 16 B1

## SW DIP-9
designator S?
9通道编码开关; Published: 24-Mar-1999; LatestRevisionDate: 17-Jul-2002; LatestRevisionNote: Re-released for DXP Platform.; PackageReference: DIP-18; Publisher: Altium Limited; Code_JEDEC: MO-036-AE
footprint DIP-SW-9-BLUE (Footprint not found)
simulation model dpsw9 (Spice Subcircuit)
footprint DIP-SW-9-RED (Footprint not found)
pins: 1 A1, 2 A2, 3 A3, 4 A4, 5 A5, 6 A6, 7 A7, 8 A8, 9 A9, 10 B9, 11 B8, 12 B7, 13 B6, 14 B5, 15 B4, 16 B3, 17 B2, 18 B1

## SW DPDT
designator S?
自锁开关 （双刀双掷）; Published: 24-Mar-1999; LatestRevisionDate: 17-Jul-2002; LatestRevisionNote: Re-released for DXP Platform.; PackageReference: SOT23-6; Publisher: Altium Limited
footprint PS-22E07 (Footprint not found)
pins: 1 NC1, 2 COMMON1, 3 NO1, 4 NO2, 5 COMMON2, 6 NC2

## SW-10WAY
designator S?, comment A6RS-101RF
10进制编码开关; Published: 24-Mar-1999; LatestRevisionDate: 17-Jul-2002; LatestRevisionNote: Re-released for DXP Platform.; PackageReference: SW-7; Publisher: Altium Limited
footprint A6RS-101RF (Footprint not found)
pins: 1, 2, 3, 4, 5

## SW-10WAY 102RF
designator S?, comment A6RS-102RF
10进制编码开关; Published: 24-Mar-1999; LatestRevisionDate: 17-Jul-2002; LatestRevisionNote: Re-released for DXP Platform.; PackageReference: SW-7; Publisher: Altium Limited
footprint A6RS-102RF (Footprint not found)
pins: 1, 2, 3, 4, 5, 6

## SW-16WAY
designator S?, comment A6RS-161RF
16进制编码开关; Published: 24-Mar-1999; LatestRevisionDate: 17-Jul-2002; LatestRevisionNote: Re-released for DXP Platform.; PackageReference: SW-7; Publisher: Altium Limited
footprint A6RS-161RF (Footprint not found)
pins: 1, 2, 3, 4, 5

## SW-16WAY 162RF
designator S?, comment A6RS-162RF
16进制编码开关; Published: 24-Mar-1999; LatestRevisionDate: 17-Jul-2002; LatestRevisionNote: Re-released for DXP Platform.; PackageReference: SW-7; Publisher: Altium Limited
footprint A6RS-162RF (Footprint not found)
pins: 1, 2, 3, 4, 5, 6

## SW-DPDT
designator S?
Double-Pole, Double-Throw Switch; Published: 24-Mar-1999; LatestRevisionDate: 17-Jul-2002; LatestRevisionNote: Re-released for DXP Platform.; PackageReference: DPDT-6; Publisher: Altium Limited
footprint DPDT-6 (Double-Pole, Double-Throw Switch; 6 Leads)
pins: 1, 2, 3, 4, 5, 6

## SW-DPST
designator S?
Double-Pole, Single-Throw Switch; Published: 24-Mar-1999; LatestRevisionDate: 17-Jul-2002; LatestRevisionNote: Re-released for DXP Platform.; PackageReference: DPST-4; Publisher: Altium Limited
footprint DPST-4 (Double-Pole, Single-Throw Switch; 4 Leads)
pins: 1 COMMON1, 2 NO1, 3 COMMON2, 4 NO2

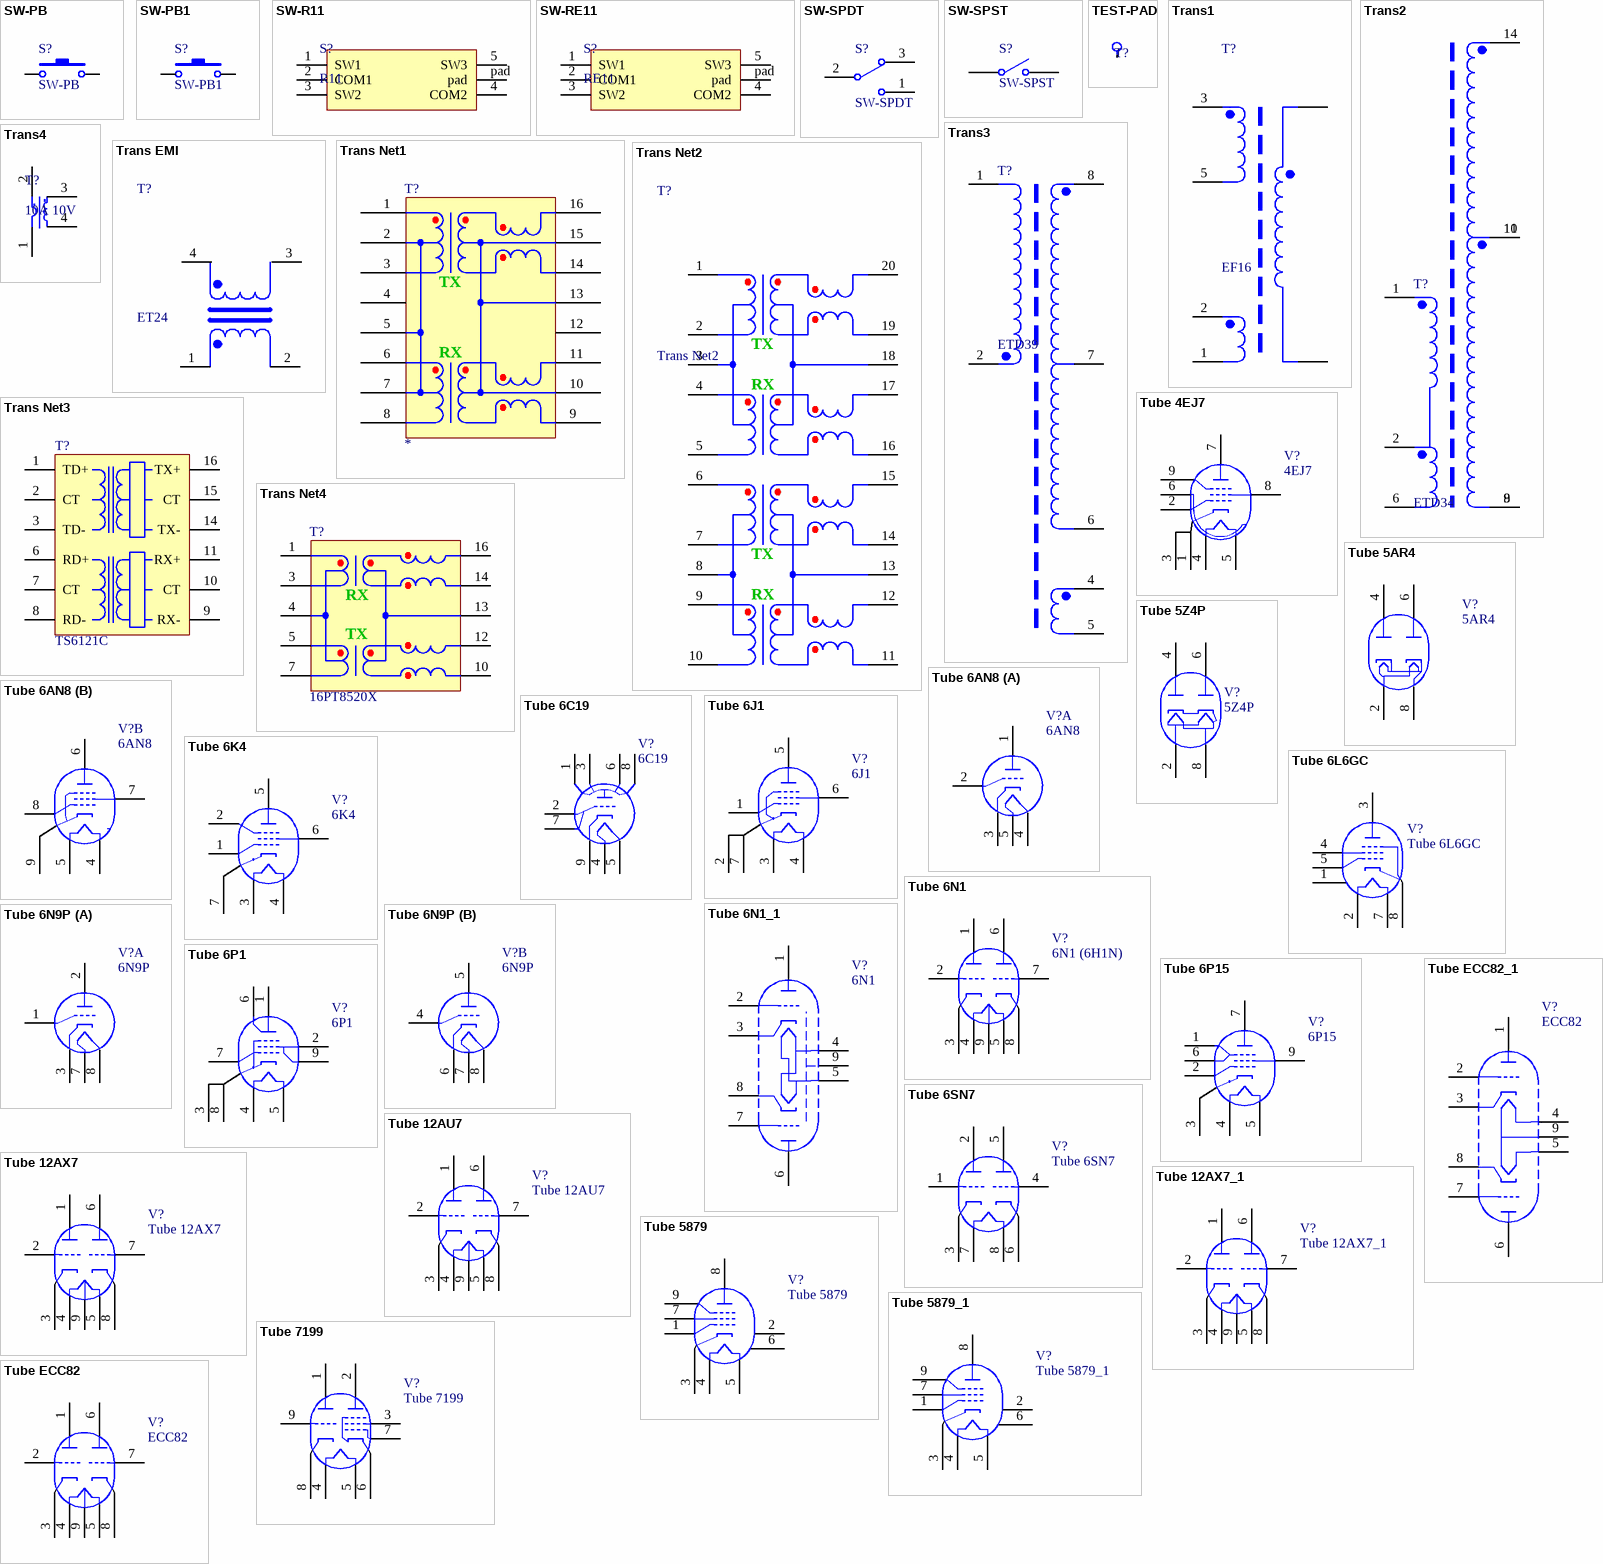
[diagram p2: symbols SW-PB to Tube ECC82_1]

## SW-PB
designator S?
2 脚轻触按键; Published: 24-Mar-1999; LatestRevisionDate: 17-Jul-2002; LatestRevisionNote: Re-released for DXP Platform.; PackageReference: SPST-2; Publisher: Altium Limited
footprint TS66HDJ-4H3 (Footprint not found)
footprint TS66HDJ-5L5 (Footprint not found)
footprint THDP08-3L5 (Footprint not found)
footprint THDP08-3L85 (Footprint not found)
footprint THDP08-5L85 (Footprint not found)
footprint THDP08-8L35 (Footprint not found)
footprint THDP08-15L85 (Footprint not found)
pins: 1, 2

## SW-PB1
designator S?
4 脚轻触按键; Published: 24-Mar-1999; LatestRevisionDate: 17-Jul-2002; LatestRevisionNote: Re-released for DXP Platform.; PackageReference: SPST-2; Publisher: Altium Limited
footprint TS66HDJ-4H3 (Footprint not found)
footprint TS66HDJ-5L0 (Footprint not found)
footprint TS66HDJ-5L5 (Footprint not found)
footprint TS66HDJ-6L0 (Footprint not found)
footprint TS66HDJ-7L0 (Footprint not found)
footprint TS44H (Footprint not found)
footprint TSTP66H-4L3 (Footprint not found)
footprint TSTP66H-5H0 (Footprint not found)
footprint TSTP66H-6H0 (Footprint not found)
footprint TSTP66H-7H0 (Footprint not found)
footprint TSTP66H-8H0 (Footprint not found)
pins: 1, 2, 3, 4

## SW-R11
designator S?, comment R11
编码旋转开关
footprint SW-R11 (旋转编码开关)
footprint SW-RE11-S (旋转编码开关（SMD）)
pins: 1 SW1, 2 COM1, 3 SW2, 4 COM2, 5 SW3, pad

## SW-RE11
designator S?, comment RE11
编码旋转开关
footprint SW-R11 (旋转编码开关)
footprint SW-RE11-S (旋转编码开关（SMD）)
footprint SW-RE11-S1 (贴片旋转编码开关)
pins: 1 SW1, 2 COM1, 3 SW2, 4 COM2, 5 SW3, pad

## SW-SPDT
designator S?
单刀双掷开关; Published: 24-Mar-1999; LatestRevisionDate: 17-Dec-2003; LatestRevisionNote: Schematic revised, PCB Footprint replaced.; DatasheetDocument: 05-Dec-2000; PackageReference: TL36WW15050; Publisher: Altium Limited; ComponentLink1Description: Manufacturer Link; ComponentLink1URL: http://www.apem.com
footprint TL36WW15050 (SPDT Subminiature Toggle Switch, Right Angle Mounting, Vertical Actuation)
footprint 09.03290.01 (Footprint not found)
pins: 1, 2, 3

## SW-SPST
designator S?
单刀单掷开关; Published: 24-Mar-1999; LatestRevisionDate: 17-Jul-2002; LatestRevisionNote: Re-released for DXP Platform.; PackageReference: SPST-2; Publisher: Altium Limited
footprint SPST-2 (Single-Pole, Single-Throw Switch; 2 Leads)
pins: 1 COMMON, 2 NO

## TEST-PAD
designator T?  (value not drawn)
测试点
footprint TEST-CIRCLE-BLACK (Footprint not found)
footprint TEST-CIRCLE-BLUE (Footprint not found)
footprint TEST-CIRCLE-BROWN (Footprint not found)
footprint TEST-CIRCLE-GRAY (Footprint not found)
footprint TEST-CIRCLE-GREEN (Footprint not found)
footprint TEST-CIRCLE-ORANGE (Footprint not found)
footprint TEST-CIRCLE-RED (Footprint not found)
footprint TEST-CIRCLE-VIOLET (Footprint not found)
footprint TEST-CIRCLE-WHITE (Footprint not found)
footprint TEST-CIRCLE-YELLOW (Footprint not found)
footprint TEST-PAD (Footprint not found)
footprint Test-PAD (测试焊盘)
pins: 1

## Trans1
designator T?, comment EF16
小功率高频变压器
footprint EE16-5+5P (Footprint not found)
pins: 1, 2, 3, 5, 6, 7, 9, 10

## Trans2
designator T?, comment ETD34
中功率高频变压器
footprint ETD34-77H (Footprint not found)
pins: 1, 2, 6, 8, 9, 10, 11, 14

## Trans3
designator T?, comment ETD39
大功率高频变压器
footprint ETD39-88H (Footprint not found)
pins: 1, 2, 4, 5, 6, 7, 8

## Trans4
designator T?, comment 10A 10V
变流器
pins: 1, 2, 3, 4

## Trans EMI
designator T?, comment ET24
共模滤波电感
footprint ET24-HOR (Footprint not found)
pins: 1, 2, 3, 4

## Trans Net1
designator T?
网络变压器 PH163539 H1102
footprint H1102
pins: 1 TD+, 2, 3 TD-, 4 NC, 5 CT, 6 RD+, 7, 8 RD-, 9 RX-, 10, 11 RX+, 12 NC, 13 CT, 14 TX-, 15, 16 TX+
text: TX; RX

## Trans Net2
designator T?
网络变压器 ( JX638)
pins: 1 TD+, 2 TD-, 3 CT, 4 RD+, 5 RD-, 6 TD+, 7 TD-, 8 CT, 9 RD+, 10 RD-, 11 RX-, 12 RX+, 13 CT, 14 TX-, 15 TX+, 16 RX-, 17 RX+, 18 CT, 19 TX-, 20 TX+
text: TX; RX

## Trans Net3
designator T?, comment TS6121C
网络变压器; Design Item Id: TS6121C
pins: 1 TD+, 2 CT, 3 TD-, 6 RD+, 7 CT, 8 RD-, 9 RX-, 10 CT, 11 RX+, 14 TX-, 15 CT, 16 TX+

## Trans Net4
designator T?, comment 16PT8520X
网络变压器 ( HN1664CG )
pins: 1 RD+, 3 RD-, 4 CT, 5 TD+, 7 TD-, 10 TX-, 12 TX+, 13 CMGND, 14 RX-, 16 RX+
text: RX; TX

## Tube 4EJ7
designator V?, comment 4EJ7
电子五极管; Note: Pins 2 and 6 are not connected.; Published: 8-Jun-2000; LatestRevisionDate: 17-Jul-2002; LatestRevisionNote: Re-released for DXP Platform.; PackageReference: VTUBE-9; Publisher: Altium Limited
footprint VTUBE-9 (Sharp Cutoff Pentode; 9 Leads)
pins: 1 KT, 2 GT1, 3 KT, 4 H, 5 H, 6 S, 7 PT, 8 GT2, 9 GT3

## Tube 5AR4
designator V?, comment 5AR4
电子二极管; Published: 8-Jun-2000; LatestRevisionDate: 17-Jul-2002; LatestRevisionNote: Re-released for DXP Platform.; PackageReference: VTUBE-9; Publisher: Altium Limited
footprint VTUBE-8 (Medium Mu Dual Triode; 8 Leads)
simulation model 12AX7 (Spice Subcircuit)
pins: 2 H, 4 PT1, 6 PT2, 8 H/K

## Tube 5Z4P
designator V?, comment 5Z4P
电子二极管; Published: 8-Jun-2000; LatestRevisionDate: 17-Jul-2002; LatestRevisionNote: Re-released for DXP Platform.; PackageReference: VTUBE-9; Publisher: Altium Limited
footprint VTUBE-8 (Medium Mu Dual Triode; 8 Leads)
simulation model 12AX7 (Spice Subcircuit)
pins: 2 H1, 4 PT1, 6 PT2, 8 KT H2

## Tube 6AN8
designator V?, comment 6AN8
复合三极管; Published: 8-Jun-2000; LatestRevisionDate: 17-Jul-2002; LatestRevisionNote: Re-released for DXP Platform.; PackageReference: VTUBE-9; Publisher: Altium Limited
footprint VTUBE-9 (High Mu Dual Triode; 9 Leads)
simulation model 12AX7 (Spice Subcircuit)
part A pins: 1 PT1, 2 GT1, 3 KT1, 4 H, 5 HM
part B pins: 4 H, 5 H, 6 PT, 7 GT2, 8 GT1, 9 KT

## Tube 6C19
designator V?, comment 6C19
电子三极管; Published: 8-Jun-2000; LatestRevisionDate: 17-Jul-2002; LatestRevisionNote: Re-released for DXP Platform.; PackageReference: VTUBE-9; Publisher: Altium Limited
footprint VTUBE-9 (Medium Mu Dual Triode; 9 Leads)
pins: 1 PT1, 2 GT1, 3 PT1, 4 HM, 5 H, 6 PT1, 7 GT1, 8 PT1, 9 KT1

## Tube 6J1
designator V?, comment 6J1
电子五极管; Note: Pins 2 and 6 are not connected.; Published: 8-Jun-2000; LatestRevisionDate: 17-Jul-2002; LatestRevisionNote: Re-released for DXP Platform.; PackageReference: VTUBE-9; Publisher: Altium Limited
footprint VTUBE-7 (Beam Power Pentode; 7 Leads)
pins: 1 GT1, 2 GT3, 3 H, 4 H, 5 PT, 6 GT2, 7 KT

## Tube 6K4
designator V?, comment 6K4
电子五极管; Note: Pins 2 and 6 are not connected.; Published: 8-Jun-2000; LatestRevisionDate: 17-Jul-2002; LatestRevisionNote: Re-released for DXP Platform.; PackageReference: VTUBE-9; Publisher: Altium Limited
footprint VTUBE-7 (Beam Power Pentode; 7 Leads)
pins: 1 GT1, 2 GT3, 3 H, 4 H, 5 PT, 6 GT2, 7 KT

## Tube 6L6GC
designator V?
电子五极管; Note: Pin 6 is omitted from the tube package, Pin 1 is Not Connected; Published: 8-Jun-2000; LatestRevisionDate: 17-Jul-2002; LatestRevisionNote: Re-released for DXP Platform.; PackageReference: VTUBE-7; Publisher: Altium Limited
footprint VTUBE-7 (Beam Power Pentode; 7 Leads)
simulation model 6L6GC (Spice Subcircuit)
pins: 1 NC, 2 H, 3 PT, 4 GT2, 5 GT1, 7 H, 8 G3, KT

## Tube 6N1
designator V?, comment 6N1 (6H1N)
电子三极管; Published: 8-Jun-2000; LatestRevisionDate: 17-Jul-2002; LatestRevisionNote: Re-released for DXP Platform.; PackageReference: VTUBE-9; Publisher: Altium Limited
footprint VTUBE-9 (High Mu Dual Triode; 9 Leads)
simulation model 12AX7 (Spice Subcircuit)
pins: 1 PT1, 2 GT1, 3 KT1, 4 H, 5 H, 6 PT2, 7 GT2, 8 KT2, 9 HM

## Tube 6N1_1
designator V?, comment 6N1
电子三极管; Published: 8-Jun-2000; LatestRevisionDate: 17-Jul-2002; LatestRevisionNote: Re-released for DXP Platform.; PackageReference: VTUBE-9; Publisher: Altium Limited
footprint VTUBE-9 (High Mu Dual Triode; 9 Leads)
simulation model 12AX7 (Spice Subcircuit)
pins: 1 PT1, 2 GT1, 3 KT1, 4 H, 5 H, 6 PT2, 7 GT2, 8 KT2, 9 HM

## Tube 6N9P
designator V?, comment 6N9P
电子三极管; Published: 8-Jun-2000; LatestRevisionDate: 17-Jul-2002; LatestRevisionNote: Re-released for DXP Platform.; PackageReference: VTUBE-9; Publisher: Altium Limited
footprint VTUBE-8 (Medium Mu Dual Triode; 8 Leads)
simulation model 12AX7 (Spice Subcircuit)
part A pins: 1 GT1, 2 PT1, 3 KT1, 7 HM, 8 H
part B pins: 4 GT2, 5 PT2, 6 KT2, 7 HM, 8 H

## Tube 6P1
designator V?, comment 6P1
电子五极管; Note: Pins 2 and 6 are not connected.; Published: 8-Jun-2000; LatestRevisionDate: 17-Jul-2002; LatestRevisionNote: Re-released for DXP Platform.; PackageReference: VTUBE-9; Publisher: Altium Limited
footprint VTUBE-9 (Sharp Cutoff Pentode; 9 Leads)
pins: 1 PT, 2 GT2, 3 KT, 4 H, 5 H, 6 PT, 7 GT1, 8 KT, 9 GT2

## Tube 6P15
designator V?, comment 6P15
电子五极管; Note: Pins 2 and 6 are not connected.; Published: 8-Jun-2000; LatestRevisionDate: 17-Jul-2002; LatestRevisionNote: Re-released for DXP Platform.; PackageReference: VTUBE-9; Publisher: Altium Limited
footprint VTUBE-9 (Sharp Cutoff Pentode; 9 Leads)
pins: 1 GT3, 2 GT1, 3 KT, 4 H, 5 H, 6 GT3, 7 PT, 9 GT2

## Tube 6SN7
designator V?
电子三极管; Published: 8-Jun-2000; LatestRevisionDate: 17-Jul-2002; LatestRevisionNote: Re-released for DXP Platform.; PackageReference: VTUBE-8; Publisher: Altium Limited
footprint VTUBE-8 (Medium Mu Dual Triode; 8 Leads)
simulation model 6SN7 (Spice Subcircuit)
pins: 1 GT1, 2 PT1, 3 KT1, 4 GT2, 5 PT2, 6 KT2, 7 H, 8 H

## Tube 12AU7
designator V?
电子三极管; Published: 8-Jun-2000; LatestRevisionDate: 17-Jul-2002; LatestRevisionNote: Re-released for DXP Platform.; PackageReference: VTUBE-9; Publisher: Altium Limited
footprint VTUBE-9 (Medium Mu Dual Triode; 9 Leads)
simulation model 12AU7 (Spice Subcircuit)
pins: 1 PT1, 2 GT1, 3 KT1, 4 H, 5 H, 6 PT2, 7 GT2, 8 KT2, 9 HM

## Tube 12AX7
designator V?
电子三极管; Published: 8-Jun-2000; LatestRevisionDate: 17-Jul-2002; LatestRevisionNote: Re-released for DXP Platform.; PackageReference: VTUBE-9; Publisher: Altium Limited
footprint VTUBE-9 (High Mu Dual Triode; 9 Leads)
simulation model 12AX7 (Spice Subcircuit)
pins: 1 PT1, 2 GT1, 3 KT1, 4 H, 5 H, 6 PT2, 7 GT2, 8 KT2, 9 HM

## Tube 12AX7_1
designator V?
电子三极管; Published: 8-Jun-2000; LatestRevisionDate: 17-Jul-2002; LatestRevisionNote: Re-released for DXP Platform.; PackageReference: VTUBE-9; Publisher: Altium Limited
footprint VTUBE-9 (High Mu Dual Triode; 9 Leads)
simulation model 12AX7 (Spice Subcircuit)
pins: 1 PT1, 2 GT1, 3 KT1, 4 H, 5 H, 6 PT2, 7 GT2, 8 KT2, 9 HM

## Tube 5879
designator V?
电子五极管; Note: Pins 2 and 6 are not connected.; Published: 8-Jun-2000; LatestRevisionDate: 17-Jul-2002; LatestRevisionNote: Re-released for DXP Platform.; PackageReference: VTUBE-9; Publisher: Altium Limited
footprint VTUBE-9 (Sharp Cutoff Pentode; 9 Leads)
pins: 1 GT1, 2 NC, 3 KT, 4 H, 5 H, 6 NC, 7 GT2, 8 PT, 9 GT3

## Tube 5879_1
designator V?
电子五极管; Note: Pins 2 and 6 are not connected.; Published: 8-Jun-2000; LatestRevisionDate: 17-Jul-2002; LatestRevisionNote: Re-released for DXP Platform.; PackageReference: VTUBE-9; Publisher: Altium Limited
footprint VTUBE-9 (Sharp Cutoff Pentode; 9 Leads)
pins: 1 GT1, 2 NC, 3 KT, 4 H, 5 H, 6 NC, 7 GT2, 8 PT, 9 GT3

## Tube 7199
designator V?
复合电子管; Published: 8-Jun-2000; LatestRevisionDate: 17-Jul-2002; LatestRevisionNote: Re-released for DXP Platform.; PackageReference: VTUBE-9; Publisher: Altium Limited
footprint VTUBE-9 (Medium Mu Triode and Sharp Cutoff Pentode; 9 Leads)
simulation model 7199 (Spice Subcircuit)
pins: 1 PT1, 2 PT2, 3 GT2, 4 H, 5 H, 6 KT2, 7 GT3, 8 KT1, 9 GT1

## Tube ECC82
designator V?, comment ECC82
电子三极管; Published: 8-Jun-2000; LatestRevisionDate: 17-Jul-2002; LatestRevisionNote: Re-released for DXP Platform.; PackageReference: VTUBE-9; Publisher: Altium Limited
footprint VTUBE-9 (High Mu Dual Triode; 9 Leads)
simulation model 12AX7 (Spice Subcircuit)
pins: 1 PT1, 2 GT1, 3 KT1, 4 H, 5 H, 6 PT2, 7 GT2, 8 KT2, 9 HM

## Tube ECC82_1
designator V?, comment ECC82
电子三极管; Published: 8-Jun-2000; LatestRevisionDate: 17-Jul-2002; LatestRevisionNote: Re-released for DXP Platform.; PackageReference: VTUBE-9; Publisher: Altium Limited
footprint VTUBE-9 (High Mu Dual Triode; 9 Leads)
simulation model 12AX7 (Spice Subcircuit)
pins: 1 PT1, 2 GT1, 3 KT1, 4 H, 5 H, 6 PT2, 7 GT2, 8 KT2, 9 HM

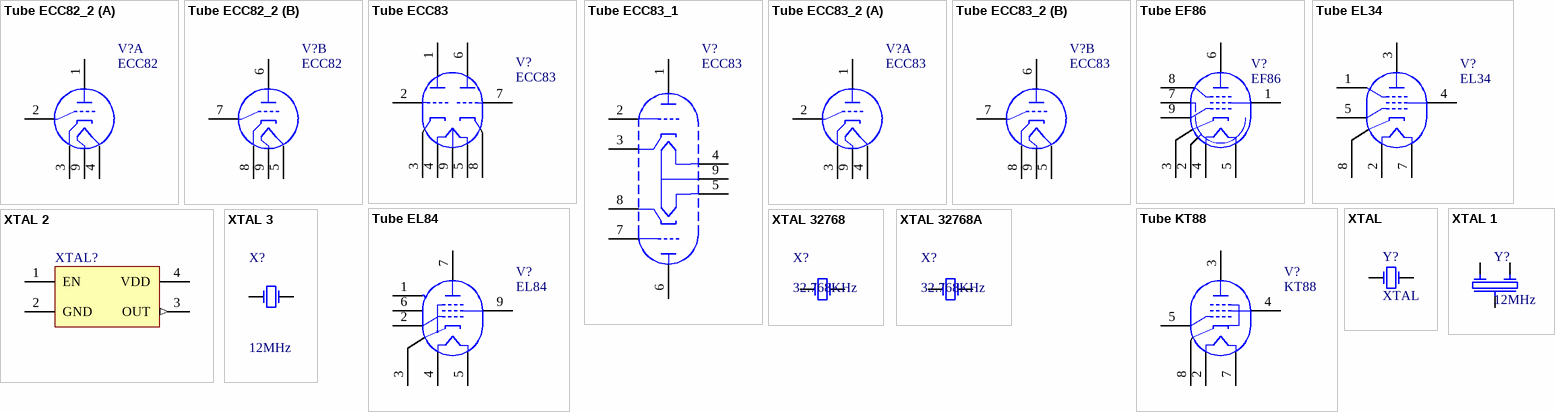
[diagram p3: symbols Tube ECC82_2 to XTAL 32768A]

## Tube ECC82_2
designator V?, comment ECC82
电子三极管; Published: 8-Jun-2000; LatestRevisionDate: 17-Jul-2002; LatestRevisionNote: Re-released for DXP Platform.; PackageReference: VTUBE-9; Publisher: Altium Limited
footprint VTUBE-9 (High Mu Dual Triode; 9 Leads)
simulation model 12AX7 (Spice Subcircuit)
part A pins: 1 PT1, 2 GT1, 3 KT1, 4 H, 9 HM
part B pins: 5 H, 6 PT2, 7 GT2, 8 KT2, 9 HM

## Tube ECC83
designator V?, comment ECC83
电子三极管; Published: 8-Jun-2000; LatestRevisionDate: 17-Jul-2002; LatestRevisionNote: Re-released for DXP Platform.; PackageReference: VTUBE-9; Publisher: Altium Limited
footprint VTUBE-9 (High Mu Dual Triode; 9 Leads)
simulation model 12AX7 (Spice Subcircuit)
pins: 1 PT1, 2 GT1, 3 KT1, 4 H, 5 H, 6 PT2, 7 GT2, 8 KT2, 9 HM

## Tube ECC83_1
designator V?, comment ECC83
电子三极管; Published: 8-Jun-2000; LatestRevisionDate: 17-Jul-2002; LatestRevisionNote: Re-released for DXP Platform.; PackageReference: VTUBE-9; Publisher: Altium Limited
footprint VTUBE-9 (High Mu Dual Triode; 9 Leads)
simulation model 12AX7 (Spice Subcircuit)
pins: 1 PT1, 2 GT1, 3 KT1, 4 H, 5 H, 6 PT2, 7 GT2, 8 KT2, 9 HM

## Tube ECC83_2
designator V?, comment ECC83
电子三极管; Published: 8-Jun-2000; LatestRevisionDate: 17-Jul-2002; LatestRevisionNote: Re-released for DXP Platform.; PackageReference: VTUBE-9; Publisher: Altium Limited
footprint VTUBE-9 (High Mu Dual Triode; 9 Leads)
simulation model 12AX7 (Spice Subcircuit)
part A pins: 1 PT1, 2 GT1, 3 KT1, 4 H, 9 HM
part B pins: 5 H, 6 PT2, 7 GT2, 8 KT2, 9 HM

## Tube EF86
designator V?, comment EF86
电子五极管; Note: Pins 2 and 6 are not connected.; Published: 8-Jun-2000; LatestRevisionDate: 17-Jul-2002; LatestRevisionNote: Re-released for DXP Platform.; PackageReference: VTUBE-9; Publisher: Altium Limited
footprint VTUBE-9 (Sharp Cutoff Pentode; 9 Leads)
pins: 1 GT2, 2 S, 3 KT, 4 H, 5 H, 6 PT, 7 S, 8 GT3, 9 GT1

## Tube EL34
designator V?, comment EL34
电子五极管; Note: Pins 2 and 6 are not connected.; Published: 8-Jun-2000; LatestRevisionDate: 17-Jul-2002; LatestRevisionNote: Re-released for DXP Platform.; PackageReference: VTUBE-9; Publisher: Altium Limited
footprint VTUBE-8 (Medium Mu Dual Triode; 8 Leads)
pins: 1 GT3, 2 H, 3 PT, 4 GT2, 5 GT1, 7 H, 8 KT

## Tube EL84
designator V?, comment EL84
电子五极管; Note: Pins 2 and 6 are not connected.; Published: 8-Jun-2000; LatestRevisionDate: 17-Jul-2002; LatestRevisionNote: Re-released for DXP Platform.; PackageReference: VTUBE-9; Publisher: Altium Limited
footprint VTUBE-9 (Sharp Cutoff Pentode; 9 Leads)
pins: 1 GT3, 2 GT1, 3 KT, 4 H, 5 H, 6 GT3, 7 PT, 9 GT2

## Tube KT88
designator V?, comment KT88
电子五极管; Note: Pins 2 and 6 are not connected.; Published: 8-Jun-2000; LatestRevisionDate: 17-Jul-2002; LatestRevisionNote: Re-released for DXP Platform.; PackageReference: VTUBE-9; Publisher: Altium Limited
pins: 2 H, 3 PT, 4 GT2, 5 GT1, 7 H, 8 KT